# Altium schematic symbol library NCP18WF104J03RB.SchLib: 1 symbol
Pins are listed as number, name and electrical type; pins without a type are passive.

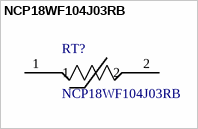
[diagram p0: symbol NCP18WF104J03RB]

## NCP18WF104J03RB
designator RT?
/ Thermistor NTC 100K Ohm 5% 2-Pin 0603 Surface Mount Solder Pad 4311K T/R /; MF: Murata Electronics; MP: NCP18WF104J03RB; SnapEDA_Link: https://www.snapeda.com/parts/NCP18WF104J03RB/Murata%20Electronics%20North%20America/view-part/?ref=snap; Price: None; Package: 0603 Murata Electronics; Availability: Unavailable; Value: *
footprint *THERM_NCP18WF104J03RB
pins: 1, 2